# EAGLE library part EL7232CN (library Intersil_By_element14_Batch_1)
Line Driver with 3-State
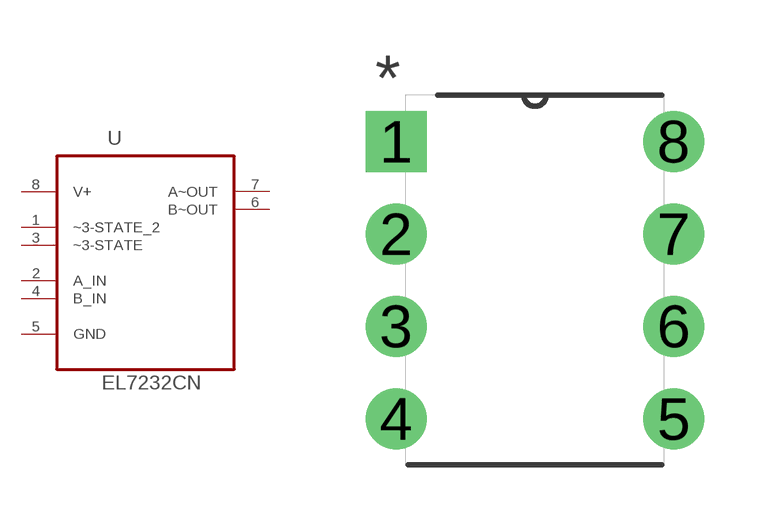
[diagram p75: symbol with the pads of DIP254P762X533-8; footprint DIP254P762X533-8]

Designator prefix U

## EL7232CN (MPN: EL7232CN; OC_FARNELL: -; OC_NEWARK: 62H5102; PACKAGE: 8-DIP; SUPPLIER: Intersil)  [DIP254P762X533-8]
1  ~3-STATE_2  in
2  A_IN  in
3  ~3-STATE  in
4  B_IN  in
5  GND  pas
6  B~OUT  out
7  A~OUT  out
8  V+  pwr

## Footprint DIP254P762X533-8 (pad centres in mm)
drill 1.118 square: 1 -7.62,7.62
drill 1.118: 2 -7.62,5.08; 3 -7.62,2.54; 4 -7.62,0; 5 0,0; 6 0,2.54; 7 0,5.08; 8 0,7.62